# EAGLE library part MCP2221 (library mcp2221)
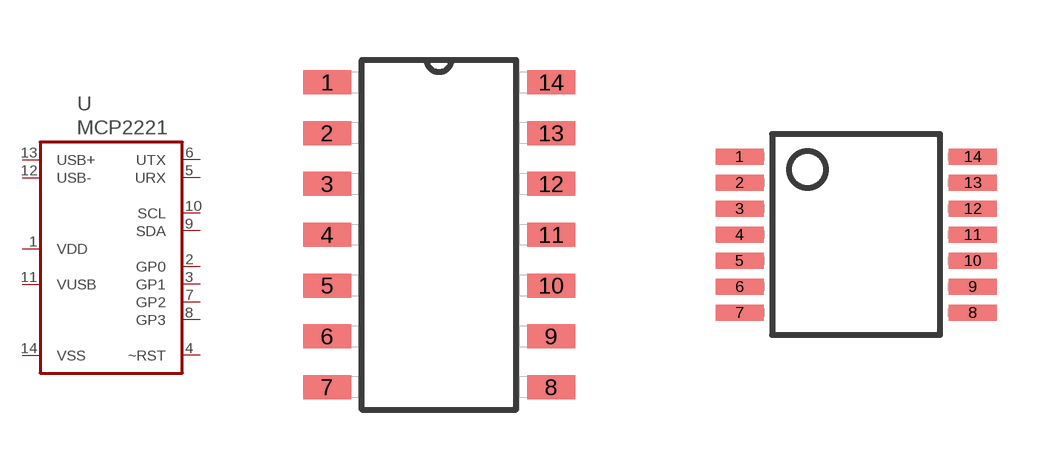
[diagram p0: symbol with the pads of SOIC14; footprints SOIC14, TSSOP14]

Designator prefix U

## MCP2221SOIC  [SOIC14]
1  VDD  pas
2  GP0  out
3  GP1  out
4  ~RST  out
5  URX  out
6  UTX  out
7  GP2  out
8  GP3  out
9  SDA  out
10  SCL  out
11  VUSB  in
12  USB-  pas
13  USB+  pas
14  VSS  pas

## MCP2221TSSOP  [TSSOP14]
Pads as for SOIC14

## MCP2221DIL  [DIL14]
Pads as for SOIC14

## Footprint SOIC14 (pad centres in mm)
smd 1.2 x 0.6: 1 -2.8,3.81; 2 -2.8,2.54; 3 -2.8,1.27; 4 -2.8,0; 5 -2.8,-1.27; 6 -2.8,-2.54; 7 -2.8,-3.81; 8 2.8,-3.81; 9 2.8,-2.54; 10 2.8,-1.27; 11 2.8,0; 12 2.8,1.27; 13 2.8,2.54; 14 2.8,3.81

## Footprint TSSOP14 (pad centres in mm)
smd 1.2 x 0.4: 1 -2.918,1.95; 2 -2.918,1.3; 3 -2.918,0.65; 4 -2.918,0; 5 -2.918,-0.65; 6 -2.918,-1.3; 7 -2.918,-1.95; 8 2.918,-1.95; 9 2.918,-1.3; 10 2.918,-0.65; 11 2.918,0; 12 2.918,0.65; 13 2.918,1.3; 14 2.918,1.95

## Footprint DIL14 (pad centres in mm)
drill 0.813 long: 1 -7.62,-3.81; 2 -5.08,-3.81; 3 -2.54,-3.81; 4 0,-3.81; 5 2.54,-3.81; 6 5.08,-3.81; 7 7.62,-3.81; 8 7.62,3.81; 9 5.08,3.81; 10 2.54,3.81; 11 0,3.81; 12 -2.54,3.81; 13 -5.08,3.81; 14 -7.62,3.81